# EAGLE library part RFM69 (library RFM69mod)
RFM69 module
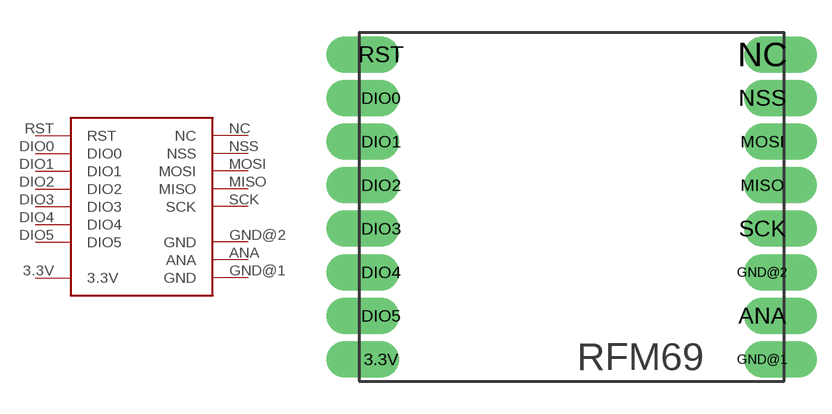
[diagram p0: symbol with the pads of 20X16BOARD; footprint 20X16BOARD]

Designator prefix -

## RFM69  [20X16BOARD]
3.3V  3.3V  pwr
ANA  ANA
DIO0  DIO0
DIO1  DIO1
DIO2  DIO2
DIO3  DIO3
DIO4  DIO4
DIO5  DIO5
GND@1  GND  pwr
GND@2  GND  pwr
MISO  MISO
MOSI  MOSI
NC  NC  pwr
NSS  NSS
RST  RST
SCK  SCK

## Footprint 20X16BOARD (pad centres in mm)
RFM69 20x16mm board
drill 0.8 pad 1.676 offset: 3.3V -9,-7; ANA 8.5,-5; DIO0 -9,5; DIO1 -9,3; DIO2 -9,1; DIO3 -9,-1; DIO4 -9,-3; DIO5 -9,-5; GND@1 8.5,-7; GND@2 8.5,-3; MISO 8.5,1; MOSI 8.5,3; NC 8.5,7; NSS 8.5,5; RST -9,7; SCK 8.5,-1